# EAGLE library part PLATINE_BOSCH-GEH. (library k-data Mechanik)
Bosch Platine für BMW Motorsteuergerät (0 261 200 520 + 0 261 203 667)
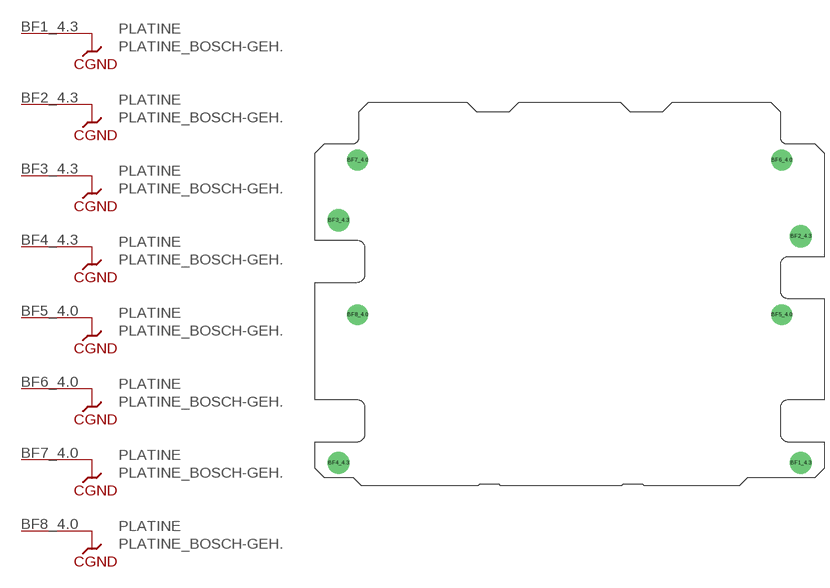
[diagram p6: symbol with the pads of PLATINE_BOSCH-GEH.; footprint PLATINE_BOSCH-GEH.]

Designator prefix PLATINE; gates BF1=CHASSIS_GND BF2=CHASSIS_GND BF3=CHASSIS_GND BF4=CHASSIS_GND BF5=CHASSIS_GND BF6=CHASSIS_GND BF7=CHASSIS_GND BF8=CHASSIS_GND

## PLATINE_BOSCH-GEH.  [PLATINE_BOSCH-GEH.]
BF1_4.3  BF1:CHASSIS-GND  sup
BF2_4.3  BF2:CHASSIS-GND  sup
BF3_4.3  BF3:CHASSIS-GND  sup
BF4_4.3  BF4:CHASSIS-GND  sup
BF5_4.0  BF5:CHASSIS-GND  sup
BF6_4.0  BF6:CHASSIS-GND  sup
BF7_4.0  BF7:CHASSIS-GND  sup
BF8_4.0  BF8:CHASSIS-GND  sup

## Footprint PLATINE_BOSCH-GEH. (pad centres in mm)
Bosch Gehäuse Platine (0 261 200 520 + 0 261 203 667)
drill 4.3 pad 7: BF1_4.3 72.5,7; BF2_4.3 72.5,78.1; BF3_4.3 -72.5,83.1; BF4_4.3 -72.5,7
drill 4 pad 6.5: BF5_4.0 66.5,53.5; BF6_4.0 66.5,102; BF7_4.0 -66.5,102; BF8_4.0 -66.5,53.5